# EAGLE library part MMA8652 (library squirrel)
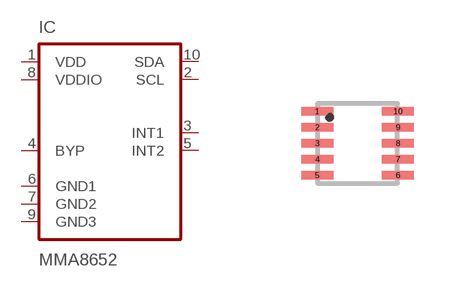
[diagram p21: symbol with the pads of DFN-10; footprint DFN-10]

Designator prefix IC

## MMA8652  [DFN-10]
1  VDD  pwr
2  SCL
3  INT1
4  BYP  pwr
5  INT2  in
6  GND1  pwr
7  GND2  pwr
8  VDDIO  pwr
9  GND3  pwr
10  SDA

## Footprint DFN-10 (pad centres in mm)
10-pin DFN, 2mm x 2mm x 0.85mm
smd 0.8 x 0.22: 1 -1.01,0.8; 2 -1.01,0.4; 3 -1.01,0; 4 -1.01,-0.4; 5 -1.01,-0.8; 6 1.01,-0.8; 7 1.01,-0.4; 8 1.01,0; 9 1.01,0.4; 10 1.01,0.8